# EAGLE library part MICRO_USB (library myParts)
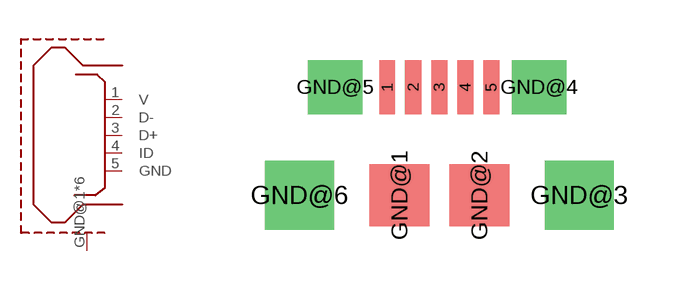
[diagram p5: symbol with the pads of MICRO_USB; footprint MICRO_USB]

Designator prefix -

## MICRO_USB  [MICRO_USB]
1  V  pwr
2  D-
3  D+
4  ID
5  GND  pwr
GND@1  SHIELD  pwr
GND@2  SHIELD  pwr
GND@3  SHIELD  pwr
GND@4  SHIELD  pwr
GND@5  SHIELD  pwr
GND@6  SHIELD  pwr

## Footprint MICRO_USB (pad centres in mm)
smd 0.4 x 1.35: 1 -1.3,2.7; 2 -0.65,2.7; 3 0,2.7; 4 0.65,2.7; 5 1.3,2.7
smd 1.5 x 1.55: GND@1 -1,0; GND@2 1,0
drill 1.15 pad 1.55 square: GND@3 3.5,0; GND@6 -3.5,0
drill 0.85 pad 1.25 square: GND@4 2.5,2.7; GND@5 -2.6,2.7